# Altium schematic symbol library Ind_TDK_MLF1005GR47JT000_470nH.SchLib: 1 symbol
Pins are listed as number, name and electrical type; pins without a type are passive.

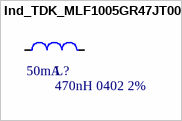
[diagram p0: symbol Ind_TDK_MLF1005GR47JT000]

## Ind_TDK_MLF1005GR47JT000
designator L?, comment 470nH 0402 2%  Current Rating: 50mA
IND 470nH Shielded Multilayer Inductor 50mA 420 mOhm Max 0402 (1005 Metric); Part Number: MLF1005GR47JT000; Manufacturer: TDK; Value: 270.0nH; DC Resistance (DCR): 420mOhms; Tolerance: ±5%; ComponentLink2Description: Datasheet; Temperature: -55°C to +125°C; ComponentLink2URL: https://product.tdk.com/info/en/catalog/datasheets/inductor_commercial_decoupling_mlz1608_en.pdf; RoHS: TRUE; Temperature Range High: +125°C; Lead Free: yes; Temperature Range Low: -55°C; Inductance: 470nH; Package: 0402 (1005)
footprint TDK_MLF1005GR47JT000_0
pins: 1, 2